# EAGLE library part FLASH_RAM2048KB (library memory-jedec-jlb)
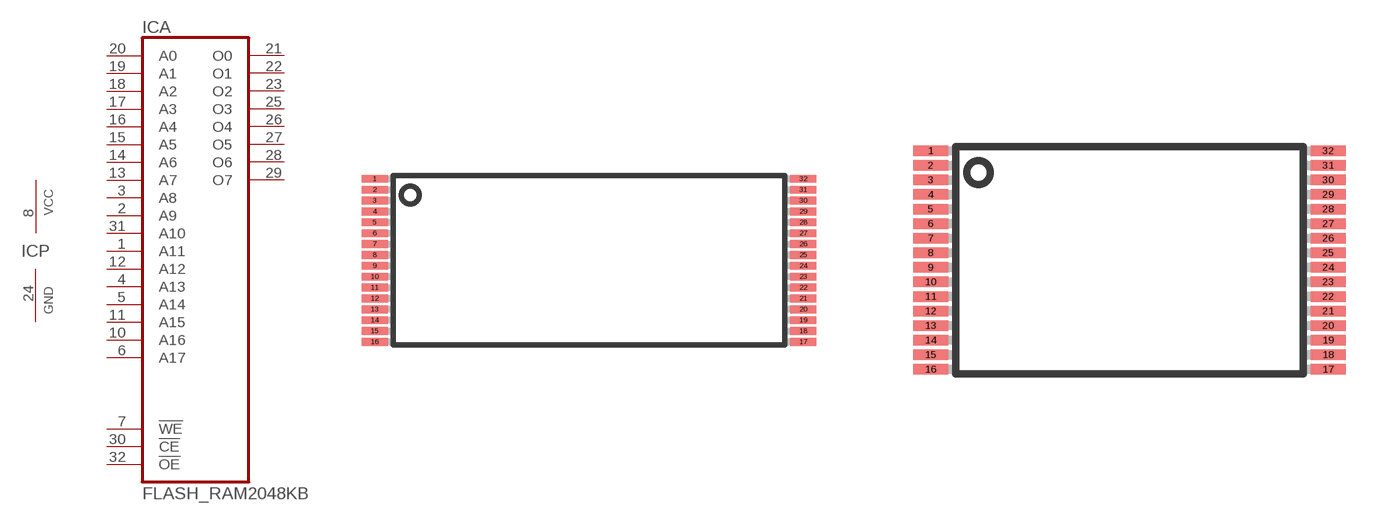
[diagram p3: symbol with the pads of TSOP32; footprints TSOP32, VSOP32]

Designator prefix IC; gates A=FLASH_RAM2048KB P=PWR

## FLASH_RAM2048KB'T'  [TSOP32]
1  A:A11  in
2  A:A9  in
3  A:A8  in
4  A:A13  in
5  A:A14  in
6  A:A17  in
7  A:!WE  in
8  P:VCC  pwr
10  A:A16  in
11  A:A15  in
12  A:A12  in
13  A:A7  in
14  A:A6  in
15  A:A5  in
16  A:A4  in
17  A:A3  in
18  A:A2  in
19  A:A1  in
20  A:A0  in
21  A:O0  hiz
22  A:O1  hiz
23  A:O2  hiz
24  P:GND  pwr
25  A:O3  hiz
26  A:O4  hiz
27  A:O5  hiz
28  A:O6  hiz
29  A:O7  hiz
30  A:!CE  in
31  A:A10  in
32  A:!OE  in

## FLASH_RAM2048KB'V'  [VSOP32]
Pads as for TSOP32

## Footprint TSOP32 (pad centres in mm)
smd 1.2 x 0.36: 1 -9.85,3.75; 2 -9.85,3.25; 3 -9.85,2.75; 4 -9.85,2.25; 5 -9.85,1.75; 6 -9.85,1.25; 7 -9.85,0.75; 8 -9.85,0.25; 9 -9.85,-0.25; 10 -9.85,-0.75; 11 -9.85,-1.25; 12 -9.85,-1.75; 13 -9.85,-2.25; 14 -9.85,-2.75; 15 -9.85,-3.25; 16 -9.85,-3.75; 17 9.85,-3.75; 18 9.85,-3.25; 19 9.85,-2.75; 20 9.85,-2.25; 21 9.85,-1.75; 22 9.85,-1.25; 23 9.85,-0.75; 24 9.85,-0.25; 25 9.85,0.25; 26 9.85,0.75; 27 9.85,1.25; 28 9.85,1.75; 29 9.85,2.25; 30 9.85,2.75; 31 9.85,3.25; 32 9.85,3.75

## Footprint VSOP32 (pad centres in mm)
smd 1.2 x 0.36: 1 -7.31,3.75; 2 -7.31,3.25; 3 -7.31,2.75; 4 -7.31,2.25; 5 -7.31,1.75; 6 -7.31,1.25; 7 -7.31,0.75; 8 -7.31,0.25; 9 -7.31,-0.25; 10 -7.31,-0.75; 11 -7.31,-1.25; 12 -7.31,-1.75; 13 -7.31,-2.25; 14 -7.31,-2.75; 15 -7.31,-3.25; 16 -7.31,-3.75; 17 6.322,-3.75; 18 6.322,-3.25; 19 6.322,-2.75; 20 6.322,-2.25; 21 6.322,-1.75; 22 6.322,-1.25; 23 6.322,-0.75; 24 6.322,-0.25; 25 6.322,0.25; 26 6.322,0.75; 27 6.322,1.25; 28 6.322,1.75; 29 6.322,2.25; 30 6.322,2.75; 31 6.322,3.25; 32 6.322,3.75